# EAGLE library part MOCD223-M (library optocoupler)
DUAL OPTO COUPLER Fairchild
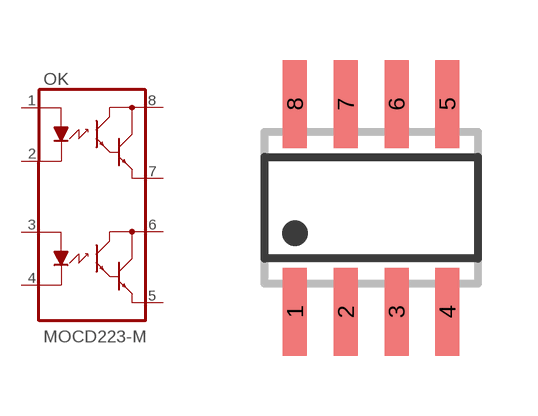
[diagram p41: symbol with the pads of SO08; footprint SO08]

Designator prefix OK

## MOCD223-M  [SO08]
1  LED1A  pas
2  LED1C  pas
3  LED2A  pas
4  LED2C  pas
5  E2  pas
6  C2  pas
7  E1  pas
8  C1  pas

## Footprint SO08 (pad centres in mm)
SMALL OUTLINE INTEGRATED CIRCUIT body 3.9 mm/JEDEC MS-012AA
smd 0.6 x 2.2: 1 -1.905,-2.6; 2 -0.635,-2.6; 3 0.635,-2.6; 4 1.905,-2.6; 5 1.905,2.6; 6 0.635,2.6; 7 -0.635,2.6; 8 -1.905,2.6